# EAGLE library part HEADER1X9 (library MyLibrary)
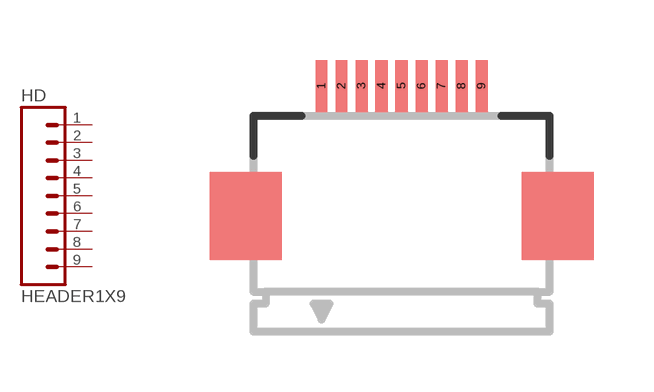
[diagram p15: symbol with the pads of FPC0.5-9; footprint FPC0.5-9]

Designator prefix HD

## HEADER1X9-FPC0.5  [FPC0.5-9]
1  1  pas
2  2  pas
3  3  pas
4  4  pas
5  5  pas
6  6  pas
7  7  pas
8  8  pas
9  9  pas

## Footprint FPC0.5-9 (pad centres in mm)
0.5mm Pitch Connectors For FPC/FFC Source: Data sheet <http://www.hirose.co.jp/cataloge_hp/e58605370.pdf>
smd 0.3 x 1.3: 1 -2,3.25; 2 -1.5,3.25; 3 -1,3.25; 4 -0.5,3.25; 5 0,3.25; 6 0.5,3.25; 7 1,3.25; 8 1.5,3.25; 9 2,3.25